# EAGLE library part A2235-H (library NASA Parts Lib)
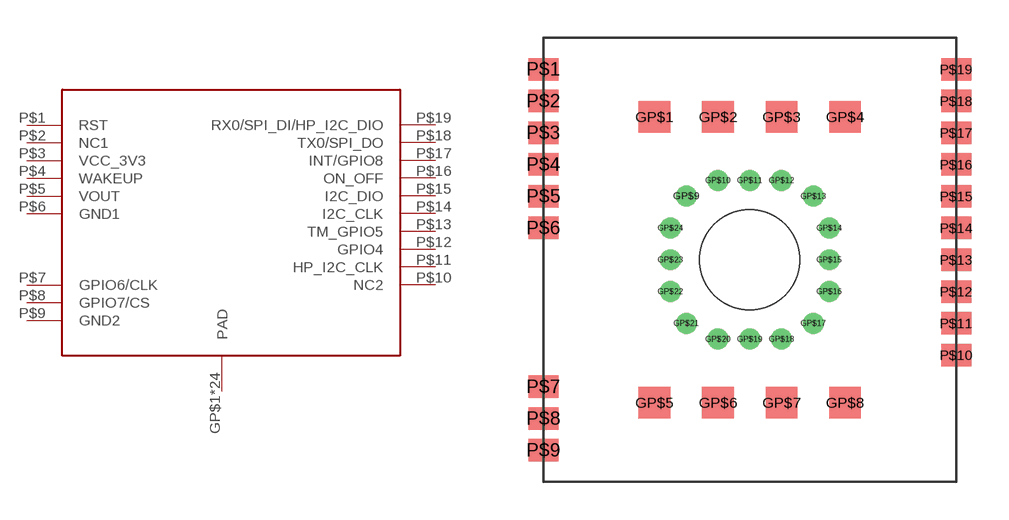
[diagram p0: symbol with the pads of A2235-H; footprint A2235-H]

Designator prefix -

## A2235-H  [A2235-H]
GP$1  PAD
GP$2  PAD
GP$3  PAD
GP$4  PAD
GP$5  PAD
GP$6  PAD
GP$7  PAD
GP$8  PAD
GP$9  PAD
GP$10  PAD
GP$11  PAD
GP$12  PAD
GP$13  PAD
GP$14  PAD
GP$15  PAD
GP$16  PAD
GP$17  PAD
GP$18  PAD
GP$19  PAD
GP$20  PAD
GP$21  PAD
GP$22  PAD
GP$23  PAD
GP$24  PAD
P$1  RST
P$2  NC1
P$3  VCC_3V3
P$4  WAKEUP
P$5  VOUT
P$6  GND1
P$7  GPIO6/CLK
P$8  GPIO7/CS
P$9  GND2
P$10  NC2
P$11  HP_I2C_CLK
P$12  GPIO4
P$13  TM_GPIO5
P$14  I2C_CLK
P$15  I2C_DIO
P$16  ON_OFF
P$17  INT/GPIO8
P$18  TX0/SPI_DO
P$19  RX0/SPI_DI/HP_I2C_DIO

## Footprint A2235-H (pad centres in mm)
smd 1.27 x 1.27: GP$1 4.445,14.605; GP$2 6.985,14.605; GP$3 9.525,14.605; GP$4 12.065,14.605; GP$5 4.445,3.175; GP$6 6.985,3.175; GP$7 9.525,3.175; GP$8 12.065,3.175
drill 0.33: GP$9 5.715,11.43; GP$10 6.985,12.065; GP$11 8.255,12.065; GP$12 9.525,12.065; GP$13 10.795,11.43; GP$14 11.43,10.16; GP$15 11.43,8.89; GP$16 11.43,7.62; GP$17 10.795,6.35; GP$18 9.525,5.715; GP$19 8.255,5.715; GP$20 6.985,5.715; GP$21 5.715,6.35; GP$22 5.08,7.62; GP$23 5.08,8.89; GP$24 5.08,10.16
smd 1.2 x 0.9: P$1 0,16.51; P$2 0,15.24; P$3 0,13.97; P$4 0,12.7; P$5 0,11.43; P$6 0,10.16; P$7 0,3.81; P$8 0,2.54; P$9 0,1.27; P$10 16.51,5.08; P$11 16.51,6.35; P$12 16.51,7.62; P$13 16.51,8.89; P$14 16.51,10.16; P$15 16.51,11.43; P$16 16.51,12.7; P$17 16.51,13.97; P$18 16.51,15.24; P$19 16.51,16.51
hole 4 at 8.255,8.89